# Altium schematic symbol library IC_MCU_MPU.SchLib: 1 symbol
Pins are listed as number, name and electrical type; pins without a type are passive.

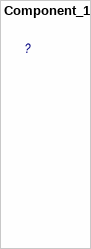
[diagram p0: symbol Component_1]

## Component_1
designator ?
Value: *